# Altium schematic symbol library VJ1206Y104JXQPW1BC.SchLib: 1 symbol
Pins are listed as number, name and electrical type; pins without a type are passive.

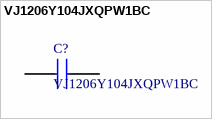
[diagram p0: symbol VJ1206Y104JXQPW1BC]

## VJ1206Y104JXQPW1BC
designator C?
Multilayer Ceramic Capacitors MLCC - SMD/SMT 1206 0.1uF 10volts X7R 5%; Manufacturer_Name: Vishay; Geometry.Height: 1.7mm; Manufacturer_Part_Number: VJ1206Y104JXQPW1BC; RS Part Number: *; RS Price/Stock: *; Arrow Part Number: VJ1206Y104JXQPW1BC; Arrow Price/Stock: *; Datasheet Link: http://www.vishay.com/docs/45200/vjhirelseries.pdf
footprint CAPC3216X170N
pins: 1, 2